# Altium integrated library TI Power Management DC-DC Controller (External Switch).IntLib: 349 symbols (part 12 of 28)
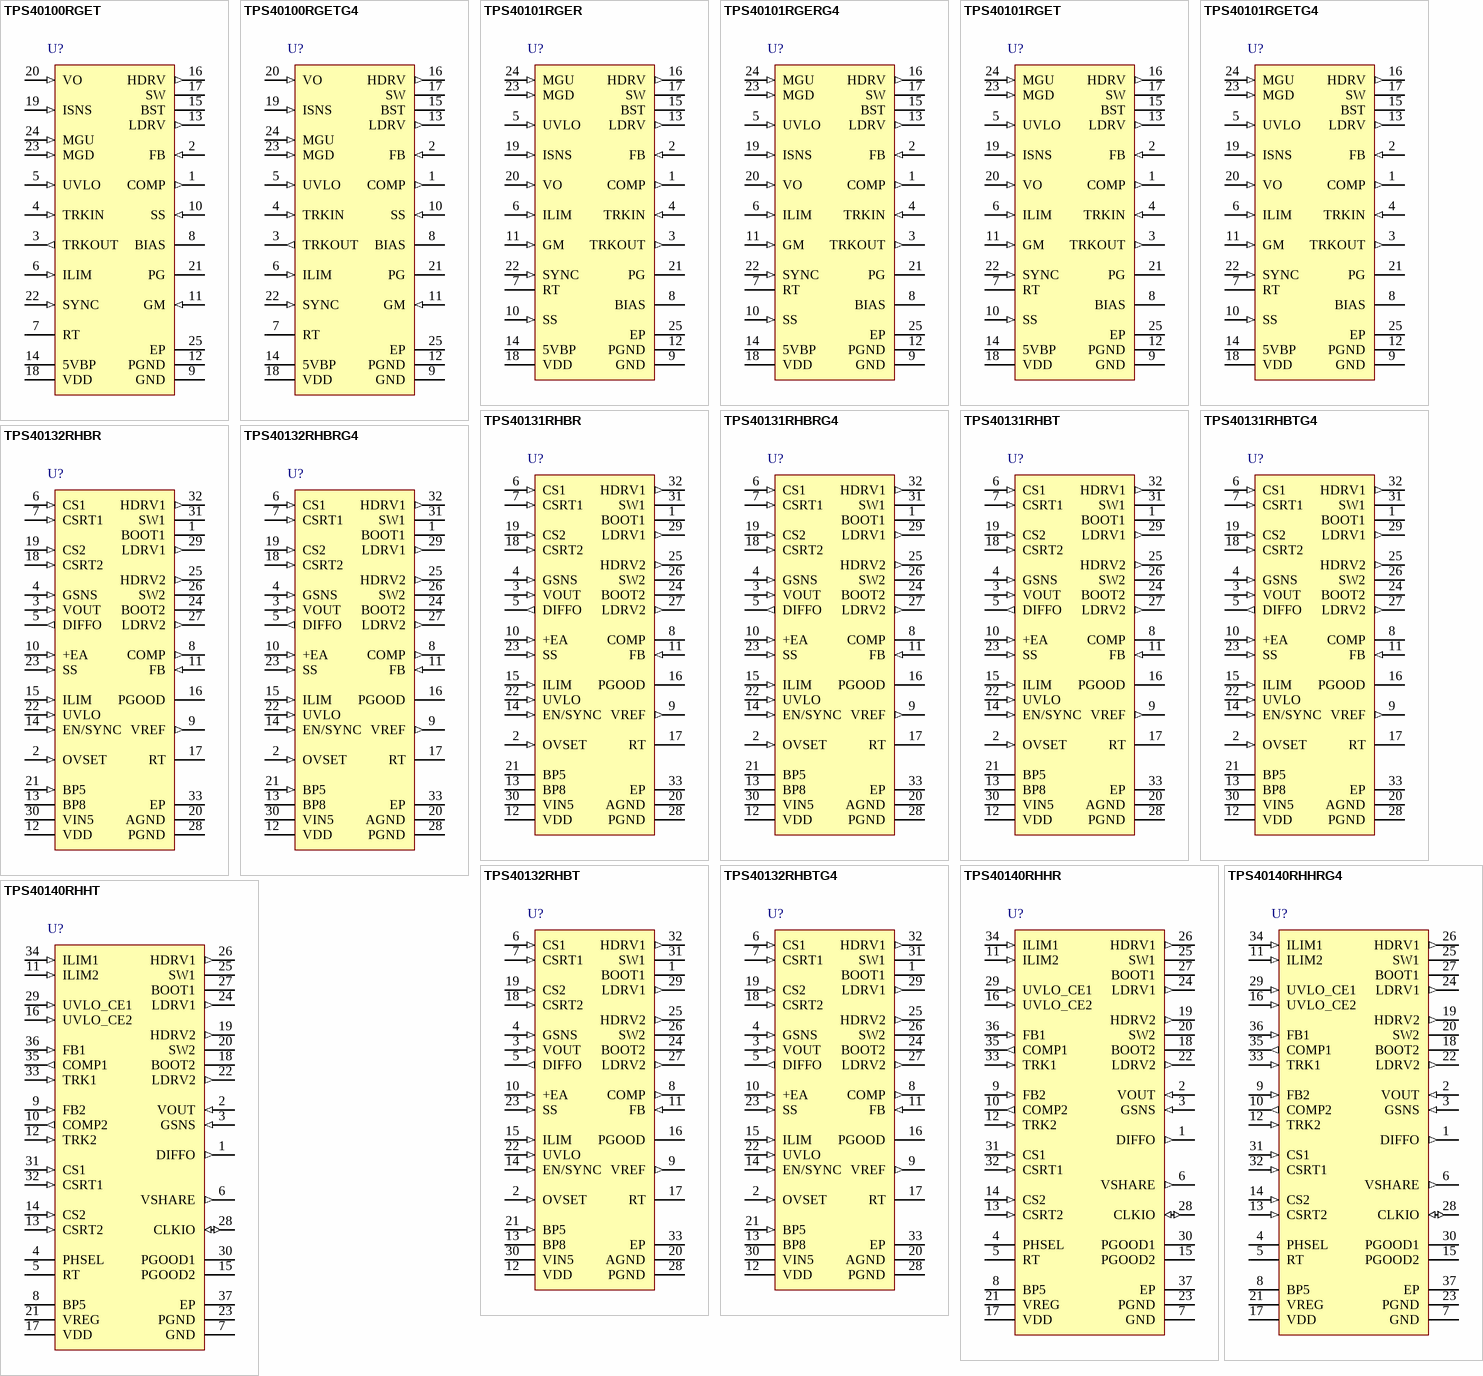
[diagram p25: symbols TPS40100RGET to TPS40140RHHT]

## TPS40140RHHRG4
designator U?
Stackable 2 Channel Multiphase or 2 Channel Independent Output Controller, 87.5 % Duty Cycle, 2 to 40 V, -40 to 85 degC, 36-pin VQFN (RHH), Green (RoHS & no Sb/Br); Manufacturer: Texas Instruments; PartNumber: TPS40140RHHRG4; Duty Cycle(Max)(%): 87.5; Iout(Max)(A): 25; Regulated Outputs(#): 2; SubFamily: Multiple-Output Switching Controller; Switching Frequency(Max)(kHz): 1000; Synchronous Rectification: TRUE; Topology: Buck, Stackable Multiphase"; Vin(Max)(V): 40; Vout(Max)(V): 5.8; Vout(Min)(V): 0.7; DatasheetVersion: SLUS660G; PackageVersion: revE,  Jun-2011; PackageReference: RHH36-4100X4100TP; PackageDescription: 36-Pin Plastic Quad Flatpack No-Lead, 6 x 6 mm Body, 0.5 mm Pitch; Supplier 1: Digi-Key; Supplier Part Number 1: TPS40140RHHRG4-ND; Supplier 2: Newark; Supplier Part Number 2: 14M2492; Supplier 3: Mouser; Supplier Part Number 3: 595-TPS40140RHHRG4; Eco-Plan: Green (RoHS & no Sb/Br); Iout2(A): 25; Vin(Min)(V): 2; Vout2(Max)(V): 5.8; Vout2(Min)(V): 0.7; Mounting Technology: Surface Mount; Code_JEDEC: MO-220; ComponentLink1Description: Datasheet; ComponentLink1URL: http://www.ti.com/general/docs/lit/getliterature.tsp?genericPartNumber=TPS40140&fileType=pdf; ComponentLink2Description: Package Specification; ComponentLink2URL: http://www.ti.com/litv/pdf/mpqf144d
footprint RHH36-4100X4100TP (QFN, 36-Leads, Body 6x6mm, Pitch 0.5mm, Thermal Pad 4.15x4.15mm, TI Recommended)
pins: 1 DIFFO (out) "Output of the differential amplifier. The output voltage of the differential amplifier is limited to 5.8 V. For remote sensing, the voltage at this pin represents the true output voltage without I x R drops that result from (See Datasheet)", 2 VOUT (in) "Non-inverting input of the differential amplifier. This pin should be connected to the output of the converter close to the load point. If the differential amplifier is not used, leave this pin open.", 3 GSNS (in) "Inverting input of the differential amplifier. This pin should be connected to ground at the load. If the differential amplifier is not used, tie this pin to GND or leave open.", 4 PHSEL "A 20uA current flows from this pin. In a single controller design, this pin should be grounded. In a multi controller configuration, a 39- k ohm resistor string sets the voltage on this pin determines the proper phasing for (See Datasheet)", 5 RT "Connecting a resistor from this pin to ground sets the oscillator frequency.", 6 VSHARE (out) "The 1.8 V reference output.", 7 GND (power) "Low noise ground connection to the device.", 8 BP5 (power) "Filtered input from the VREG pin. A 10-ohm resistor should be connected between VREG and BP5 and a 1.0-uF ceramic capacitor should be connected from BP5 to ground.", 9 FB2 (in) "Inverting input of the error amplifier for CH2. In closed loop operation, the voltage at this pin is nominally 700 mV. This pin is also monitored for PGOOD2 and undervoltage on CH2.", 10 COMP2 (out) "Output of the error amplifier, CH2. The voltage at this pin determines the duty cycle for the PWM2.", 11 ILIM2 (in) "Used to set the cycle-by-cycle current limit threshold for CH2. If the ILIM2 threshold is reached, the PWM pulse is terminated and the converter delivers limited current to the output.", 12 TRK2 (in) "This is an input to the non-inverting input of the error amplifier CH2. This pin is normally connected to the soft-start capacitor or to another voltage that is tracked.", 13 CSRT2 (in) "Return point of CH1 current sense voltage. The trace for this signal must be connected directly at the current sense element.", 14 CS2 (in) "These pins are used to sense the CH2 phase current. Inductor current can be sensed with an external current sense resistor or by using an external R-C circuit and the inductor’s DC resistance. The traces for these signals (See Datasheet)", 15 PGOOD2 (oc) "Power good indicators for CH2 output voltage. This open-drain output connects to a voltage via an external resistor", 16 UVLO_CE2 (in) "A voltage divider from VIN to this pin determines the input voltage that CH2 starts. When the voltage is between 0.5 V and 1.5 V the VREG regulator is enabled . When the voltage is 2.1 V or above CH2 soft start is allowed to (See Datasheet)", 17 VDD (power) "Power input for the controller 5V regulator and differential amplifier. A 1.0-uF ceramic capacitor should be connected from this pin to ground.", 18 BOOT2 (power) "BOOT2 provides a bootstrapped supply for the high side FET driver for PWM2, enabling the gate of the high side FET to be driven above the input supply rail. Connect a capacitor from BOOT2 to SW2 pin and a Schottky diode from (See Datasheet)", 19 HDRV2 (out) "Gate drive output for the high side N-channel MOSFET switch for CH2. Output is referenced to SW2 and is bootstrapped for enhancement of the high side switch.", 20 SW2 (power) "Connect to the switched node on converter CH2. It is the return for the CH 2 upper gate driver. There should be a high current return path from the source of the upper MOSFET to this pin. This pin is also used by the (See Datasheet)", 21 VREG (power) "The output of the internal 5-V regulator. A 4.7-uF ceramic capacitor should be connected from this pin to PGND.", 22 LDRV2 (out) "Gate drive output for the low side synchronous rectifier (SR) N-channel MOSFET for CH2.", 23 PGND (power) "Power ground reference for the controller lower gate drivers. There should be a high current return path from the sources of the lower MOSFETs to this pin.", 24 LDRV1 (out) "Gate drive output for the low side synchronous rectifier (SR) N-channel MOSFET for CH1.", 25 SW1 (power) "Connect to the switched node on converter CH1. It is the return for the CH 1 upper gate driver. There should be a high current return path from the source of the upper MOSFET to this pin. This pin is also used by the (See Datasheet)", 26 HDRV1 (out) "Gate drive output for the high side N-channel MOSFET switch for CH1. Output is referenced to SW1 and is bootstrapped for enhancement of the high side switch.", 27 BOOT1 (power) "BOOT1 provides a bootstrapped supply for the high side FET driver for PWM1, enabling the gate of the high side FET to be driven above the input supply rail. Connect a capacitor from BOOT1 to SW1 pin and a Schottky diode from (See Datasheet)", 28 CLKIO (io) "Digital clock signal for synchronizing slave controllers to the master CLKIO frequency and is either 6 or 8 times the PWM switching frequency.", 29 UVLO_CE1 (in) "A voltage divider from VIN to this pin determines the input voltage that CH1 starts. When the voltage is between 0.5 V and 1.5 V the VREG regulator is enabled . When the voltage is 2.1 V or above CH1 soft start is allowed to (See Datasheet)", 30 PGOOD1 (oc) "Power good indicators for CH1 output voltage. This open-drain output connects to a voltage via an external resistor", 31 CS1 (in) "These pins are used to sense the CH1 phase current. Inductor current can be sensed with an external current sense resistor or by using an external R-C circuit and the inductor’s DC resistance. The traces for these signals (See Datasheet)", 32 CSRT1 (in) "Return point of CH1 current sense voltage. The trace for this signal must be connected directly at the current sense element.", 33 TRK1 (in) "This is an input to the non-inverting input of the error amplifier CH1. This pin is normally connected to the soft-start capacitor or to another voltage that is tracked.", 34 ILIM1 (in) "Used to set the cycle-by-cycle current limit threshold for CH1. If the ILIM1 threshold is reached, the PWM pulse is terminated and the converter delivers limited current to the output.", 35 COMP1 (out) "Output of the error amplifier, CH1. The voltage at this pin determines the duty cycle for the PWM1.", 36 FB1 (in) "Inverting input of the error amplifier for CH1. In closed loop operation, the voltage at this pin is nominally 700 mV. This pin is also monitored for PGOOD1 and undervoltage on CH1.", 37 EP (power) "Thermal pad."

## TPS40140RHHT
designator U?
Stackable 2 Channel Multiphase or 2 Channel Independent Output Controller, 87.5 % Duty Cycle, 2 to 40 V, -40 to 85 degC, 36-pin VQFN (RHH), Green (RoHS & no Sb/Br); Manufacturer: Texas Instruments; PartNumber: TPS40140RHHT; Duty Cycle(Max)(%): 87.5; Iout(Max)(A): 25; Regulated Outputs(#): 2; SubFamily: Multiple-Output Switching Controller; Switching Frequency(Max)(kHz): 1000; Synchronous Rectification: TRUE; Topology: Buck, Stackable Multiphase"; Vin(Max)(V): 40; Vout(Max)(V): 5.8; Vout(Min)(V): 0.7; DatasheetVersion: SLUS660G; PackageVersion: revE,  Jun-2011; PackageReference: RHH36-4100X4100TP; PackageDescription: 36-Pin Plastic Quad Flatpack No-Lead, 6 x 6 mm Body, 0.5 mm Pitch; Supplier 1: Digi-Key; Supplier Part Number 1: 296-26964-2-ND; Supplier 2: Digi-Key; Supplier Part Number 2: 296-26964-1-ND; Supplier 3: Digi-Key; Supplier Part Number 3: 296-26964-6-ND; Supplier 4: Farnell; Supplier Part Number 4: 1329594; Supplier 5: Newark; Supplier Part Number 5: 10M0624; Supplier 6: Mouser; Supplier Part Number 6: 595-TPS40140RHHT; Eco-Plan: Green (RoHS & no Sb/Br); Iout2(A): 25; Vin(Min)(V): 2; Vout2(Max)(V): 5.8; Vout2(Min)(V): 0.7; Mounting Technology: Surface Mount; Code_JEDEC: MO-220; ComponentLink1Description: Datasheet; ComponentLink1URL: http://www.ti.com/general/docs/lit/getliterature.tsp?genericPartNumber=TPS40140&fileType=pdf; ComponentLink2Description: Package Specification; ComponentLink2URL: http://www.ti.com/litv/pdf/mpqf144d
footprint RHH36-4100X4100TP (QFN, 36-Leads, Body 6x6mm, Pitch 0.5mm, Thermal Pad 4.15x4.15mm, TI Recommended)
pins: 1 DIFFO (out) "Output of the differential amplifier. The output voltage of the differential amplifier is limited to 5.8 V. For remote sensing, the voltage at this pin represents the true output voltage without I x R drops that result from (See Datasheet)", 2 VOUT (in) "Non-inverting input of the differential amplifier. This pin should be connected to the output of the converter close to the load point. If the differential amplifier is not used, leave this pin open.", 3 GSNS (in) "Inverting input of the differential amplifier. This pin should be connected to ground at the load. If the differential amplifier is not used, tie this pin to GND or leave open.", 4 PHSEL "A 20uA current flows from this pin. In a single controller design, this pin should be grounded. In a multi controller configuration, a 39- k ohm resistor string sets the voltage on this pin determines the proper phasing for (See Datasheet)", 5 RT "Connecting a resistor from this pin to ground sets the oscillator frequency.", 6 VSHARE (out) "The 1.8 V reference output.", 7 GND (power) "Low noise ground connection to the device.", 8 BP5 (power) "Filtered input from the VREG pin. A 10-ohm resistor should be connected between VREG and BP5 and a 1.0-uF ceramic capacitor should be connected from BP5 to ground.", 9 FB2 (in) "Inverting input of the error amplifier for CH2. In closed loop operation, the voltage at this pin is nominally 700 mV. This pin is also monitored for PGOOD2 and undervoltage on CH2.", 10 COMP2 (out) "Output of the error amplifier, CH2. The voltage at this pin determines the duty cycle for the PWM2.", 11 ILIM2 (in) "Used to set the cycle-by-cycle current limit threshold for CH2. If the ILIM2 threshold is reached, the PWM pulse is terminated and the converter delivers limited current to the output.", 12 TRK2 (in) "This is an input to the non-inverting input of the error amplifier CH2. This pin is normally connected to the soft-start capacitor or to another voltage that is tracked.", 13 CSRT2 (in) "Return point of CH1 current sense voltage. The trace for this signal must be connected directly at the current sense element.", 14 CS2 (in) "These pins are used to sense the CH2 phase current. Inductor current can be sensed with an external current sense resistor or by using an external R-C circuit and the inductor’s DC resistance. The traces for these signals (See Datasheet)", 15 PGOOD2 (oc) "Power good indicators for CH2 output voltage. This open-drain output connects to a voltage via an external resistor", 16 UVLO_CE2 (in) "A voltage divider from VIN to this pin determines the input voltage that CH2 starts. When the voltage is between 0.5 V and 1.5 V the VREG regulator is enabled . When the voltage is 2.1 V or above CH2 soft start is allowed to (See Datasheet)", 17 VDD (power) "Power input for the controller 5V regulator and differential amplifier. A 1.0-uF ceramic capacitor should be connected from this pin to ground.", 18 BOOT2 (power) "BOOT2 provides a bootstrapped supply for the high side FET driver for PWM2, enabling the gate of the high side FET to be driven above the input supply rail. Connect a capacitor from BOOT2 to SW2 pin and a Schottky diode from (See Datasheet)", 19 HDRV2 (out) "Gate drive output for the high side N-channel MOSFET switch for CH2. Output is referenced to SW2 and is bootstrapped for enhancement of the high side switch.", 20 SW2 (power) "Connect to the switched node on converter CH2. It is the return for the CH 2 upper gate driver. There should be a high current return path from the source of the upper MOSFET to this pin. This pin is also used by the (See Datasheet)", 21 VREG (power) "The output of the internal 5-V regulator. A 4.7-uF ceramic capacitor should be connected from this pin to PGND.", 22 LDRV2 (out) "Gate drive output for the low side synchronous rectifier (SR) N-channel MOSFET for CH2.", 23 PGND (power) "Power ground reference for the controller lower gate drivers. There should be a high current return path from the sources of the lower MOSFETs to this pin.", 24 LDRV1 (out) "Gate drive output for the low side synchronous rectifier (SR) N-channel MOSFET for CH1.", 25 SW1 (power) "Connect to the switched node on converter CH1. It is the return for the CH 1 upper gate driver. There should be a high current return path from the source of the upper MOSFET to this pin. This pin is also used by the (See Datasheet)", 26 HDRV1 (out) "Gate drive output for the high side N-channel MOSFET switch for CH1. Output is referenced to SW1 and is bootstrapped for enhancement of the high side switch.", 27 BOOT1 (power) "BOOT1 provides a bootstrapped supply for the high side FET driver for PWM1, enabling the gate of the high side FET to be driven above the input supply rail. Connect a capacitor from BOOT1 to SW1 pin and a Schottky diode from (See Datasheet)", 28 CLKIO (io) "Digital clock signal for synchronizing slave controllers to the master CLKIO frequency and is either 6 or 8 times the PWM switching frequency.", 29 UVLO_CE1 (in) "A voltage divider from VIN to this pin determines the input voltage that CH1 starts. When the voltage is between 0.5 V and 1.5 V the VREG regulator is enabled . When the voltage is 2.1 V or above CH1 soft start is allowed to (See Datasheet)", 30 PGOOD1 (oc) "Power good indicators for CH1 output voltage. This open-drain output connects to a voltage via an external resistor", 31 CS1 (in) "These pins are used to sense the CH1 phase current. Inductor current can be sensed with an external current sense resistor or by using an external R-C circuit and the inductor’s DC resistance. The traces for these signals (See Datasheet)", 32 CSRT1 (in) "Return point of CH1 current sense voltage. The trace for this signal must be connected directly at the current sense element.", 33 TRK1 (in) "This is an input to the non-inverting input of the error amplifier CH1. This pin is normally connected to the soft-start capacitor or to another voltage that is tracked.", 34 ILIM1 (in) "Used to set the cycle-by-cycle current limit threshold for CH1. If the ILIM1 threshold is reached, the PWM pulse is terminated and the converter delivers limited current to the output.", 35 COMP1 (out) "Output of the error amplifier, CH1. The voltage at this pin determines the duty cycle for the PWM1.", 36 FB1 (in) "Inverting input of the error amplifier for CH1. In closed loop operation, the voltage at this pin is nominally 700 mV. This pin is also monitored for PGOOD1 and undervoltage on CH1.", 37 EP (power) "Thermal pad."

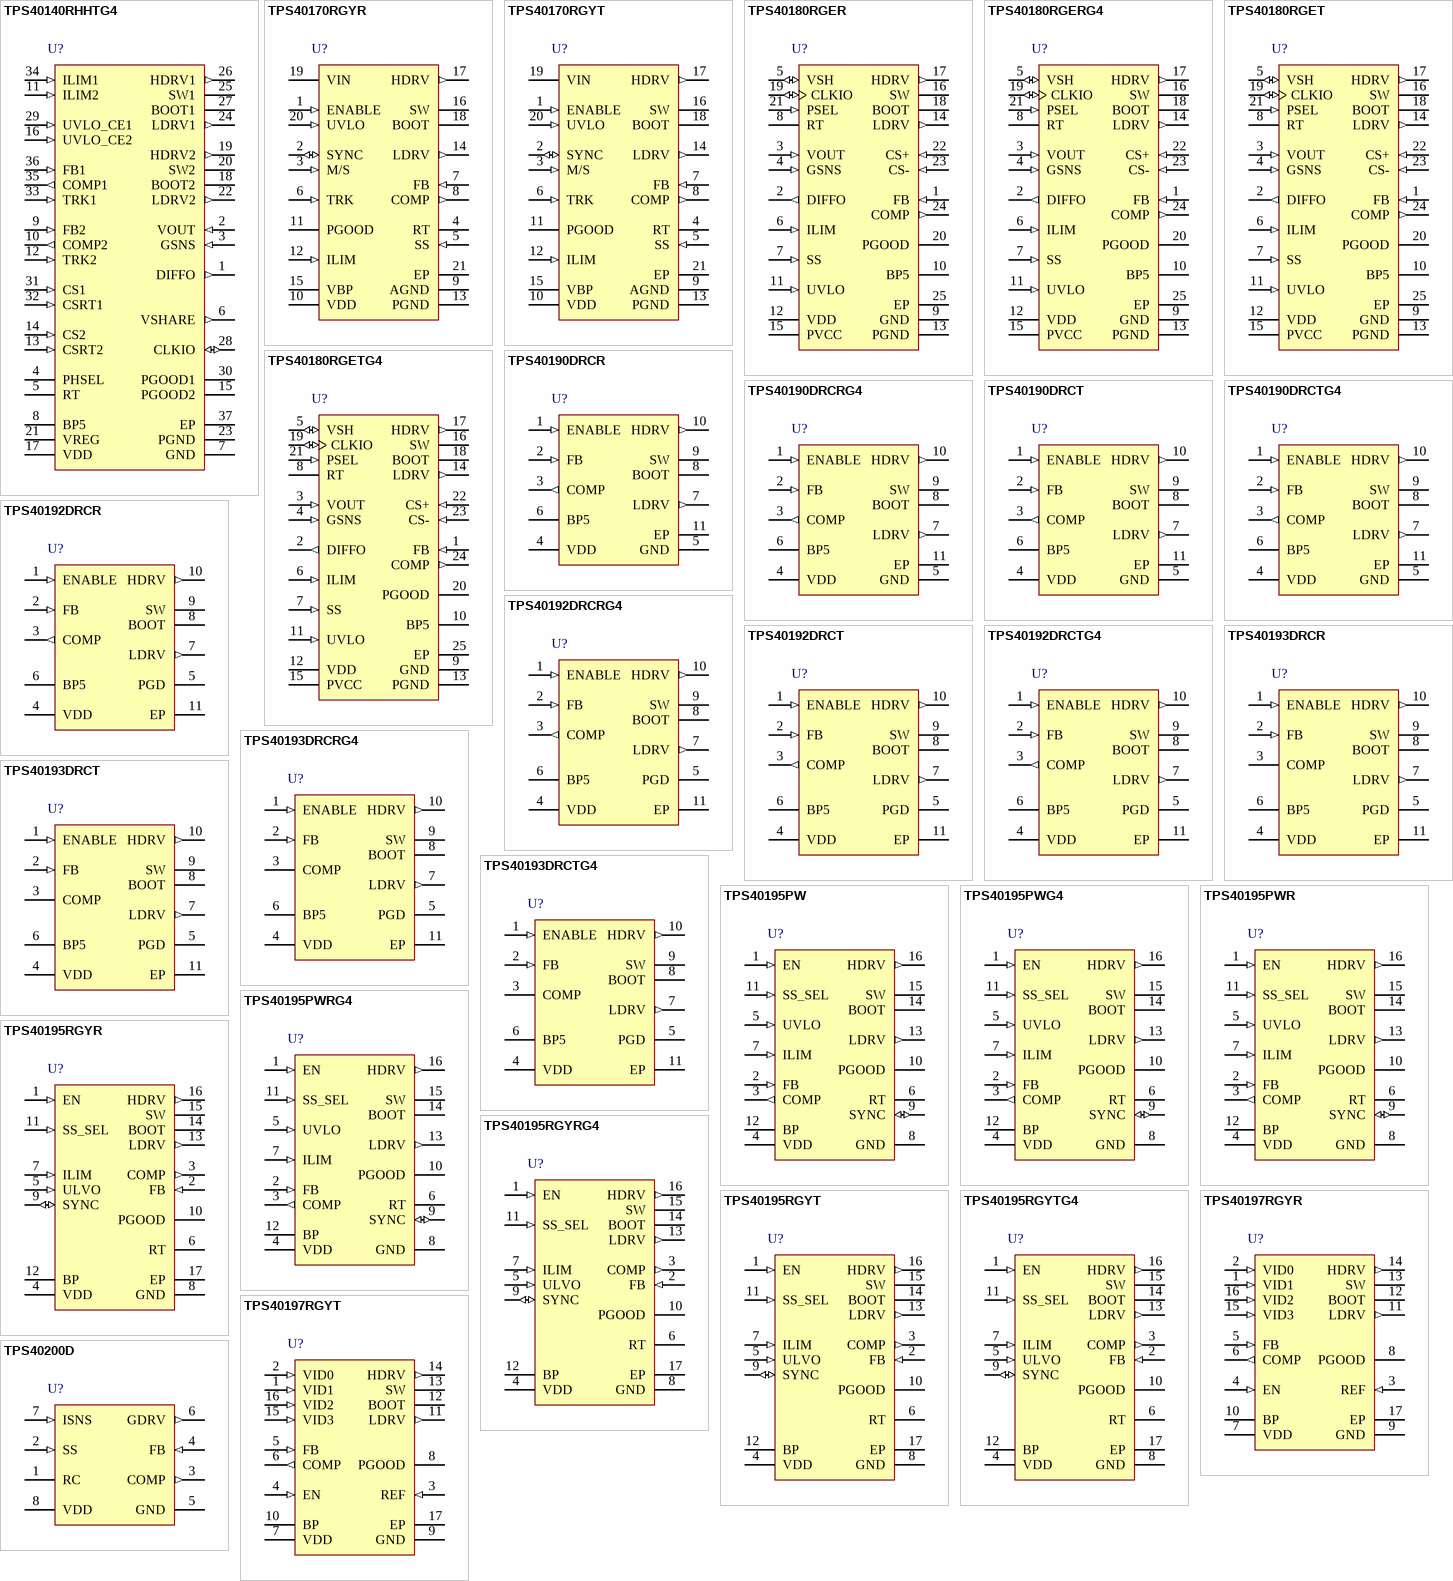
[diagram p7: symbols TPS40140RHHTG4 to TPS40200D]

## TPS40140RHHTG4
designator U?
Stackable 2 Channel Multiphase or 2 Channel Independent Output Controller, 87.5 % Duty Cycle, 2 to 40 V, -40 to 85 degC, 36-pin VQFN (RHH), Green (RoHS & no Sb/Br); Manufacturer: Texas Instruments; PartNumber: TPS40140RHHTG4; Duty Cycle(Max)(%): 87.5; Iout(Max)(A): 25; Regulated Outputs(#): 2; SubFamily: Multiple-Output Switching Controller; Switching Frequency(Max)(kHz): 1000; Synchronous Rectification: TRUE; Topology: Buck, Stackable Multiphase"; Vin(Max)(V): 40; Vout(Max)(V): 5.8; Vout(Min)(V): 0.7; DatasheetVersion: SLUS660G; PackageVersion: revE,  Jun-2011; PackageReference: RHH36-4100X4100TP; PackageDescription: 36-Pin Plastic Quad Flatpack No-Lead, 6 x 6 mm Body, 0.5 mm Pitch; Supplier 1: Digi-Key; Supplier Part Number 1: TPS40140RHHTG4-ND; Supplier 2: Newark; Supplier Part Number 2: 14M2493; Supplier 3: Mouser; Supplier Part Number 3: 595-TPS40140RHHTG4; Eco-Plan: Green (RoHS & no Sb/Br); Iout2(A): 25; Vin(Min)(V): 2; Vout2(Max)(V): 5.8; Vout2(Min)(V): 0.7; Mounting Technology: Surface Mount; Code_JEDEC: MO-220; ComponentLink1Description: Datasheet; ComponentLink1URL: http://www.ti.com/general/docs/lit/getliterature.tsp?genericPartNumber=TPS40140&fileType=pdf; ComponentLink2Description: Package Specification; ComponentLink2URL: http://www.ti.com/litv/pdf/mpqf144d
footprint RHH36-4100X4100TP (QFN, 36-Leads, Body 6x6mm, Pitch 0.5mm, Thermal Pad 4.15x4.15mm, TI Recommended)
pins: 1 DIFFO (out) "Output of the differential amplifier. The output voltage of the differential amplifier is limited to 5.8 V. For remote sensing, the voltage at this pin represents the true output voltage without I x R drops that result from (See Datasheet)", 2 VOUT (in) "Non-inverting input of the differential amplifier. This pin should be connected to the output of the converter close to the load point. If the differential amplifier is not used, leave this pin open.", 3 GSNS (in) "Inverting input of the differential amplifier. This pin should be connected to ground at the load. If the differential amplifier is not used, tie this pin to GND or leave open.", 4 PHSEL "A 20uA current flows from this pin. In a single controller design, this pin should be grounded. In a multi controller configuration, a 39- k ohm resistor string sets the voltage on this pin determines the proper phasing for (See Datasheet)", 5 RT "Connecting a resistor from this pin to ground sets the oscillator frequency.", 6 VSHARE (out) "The 1.8 V reference output.", 7 GND (power) "Low noise ground connection to the device.", 8 BP5 (power) "Filtered input from the VREG pin. A 10-ohm resistor should be connected between VREG and BP5 and a 1.0-uF ceramic capacitor should be connected from BP5 to ground.", 9 FB2 (in) "Inverting input of the error amplifier for CH2. In closed loop operation, the voltage at this pin is nominally 700 mV. This pin is also monitored for PGOOD2 and undervoltage on CH2.", 10 COMP2 (out) "Output of the error amplifier, CH2. The voltage at this pin determines the duty cycle for the PWM2.", 11 ILIM2 (in) "Used to set the cycle-by-cycle current limit threshold for CH2. If the ILIM2 threshold is reached, the PWM pulse is terminated and the converter delivers limited current to the output.", 12 TRK2 (in) "This is an input to the non-inverting input of the error amplifier CH2. This pin is normally connected to the soft-start capacitor or to another voltage that is tracked.", 13 CSRT2 (in) "Return point of CH1 current sense voltage. The trace for this signal must be connected directly at the current sense element.", 14 CS2 (in) "These pins are used to sense the CH2 phase current. Inductor current can be sensed with an external current sense resistor or by using an external R-C circuit and the inductor’s DC resistance. The traces for these signals (See Datasheet)", 15 PGOOD2 (oc) "Power good indicators for CH2 output voltage. This open-drain output connects to a voltage via an external resistor", 16 UVLO_CE2 (in) "A voltage divider from VIN to this pin determines the input voltage that CH2 starts. When the voltage is between 0.5 V and 1.5 V the VREG regulator is enabled . When the voltage is 2.1 V or above CH2 soft start is allowed to (See Datasheet)", 17 VDD (power) "Power input for the controller 5V regulator and differential amplifier. A 1.0-uF ceramic capacitor should be connected from this pin to ground.", 18 BOOT2 (power) "BOOT2 provides a bootstrapped supply for the high side FET driver for PWM2, enabling the gate of the high side FET to be driven above the input supply rail. Connect a capacitor from BOOT2 to SW2 pin and a Schottky diode from (See Datasheet)", 19 HDRV2 (out) "Gate drive output for the high side N-channel MOSFET switch for CH2. Output is referenced to SW2 and is bootstrapped for enhancement of the high side switch.", 20 SW2 (power) "Connect to the switched node on converter CH2. It is the return for the CH 2 upper gate driver. There should be a high current return path from the source of the upper MOSFET to this pin. This pin is also used by the (See Datasheet)", 21 VREG (power) "The output of the internal 5-V regulator. A 4.7-uF ceramic capacitor should be connected from this pin to PGND.", 22 LDRV2 (out) "Gate drive output for the low side synchronous rectifier (SR) N-channel MOSFET for CH2.", 23 PGND (power) "Power ground reference for the controller lower gate drivers. There should be a high current return path from the sources of the lower MOSFETs to this pin.", 24 LDRV1 (out) "Gate drive output for the low side synchronous rectifier (SR) N-channel MOSFET for CH1.", 25 SW1 (power) "Connect to the switched node on converter CH1. It is the return for the CH 1 upper gate driver. There should be a high current return path from the source of the upper MOSFET to this pin. This pin is also used by the (See Datasheet)", 26 HDRV1 (out) "Gate drive output for the high side N-channel MOSFET switch for CH1. Output is referenced to SW1 and is bootstrapped for enhancement of the high side switch.", 27 BOOT1 (power) "BOOT1 provides a bootstrapped supply for the high side FET driver for PWM1, enabling the gate of the high side FET to be driven above the input supply rail. Connect a capacitor from BOOT1 to SW1 pin and a Schottky diode from (See Datasheet)", 28 CLKIO (io) "Digital clock signal for synchronizing slave controllers to the master CLKIO frequency and is either 6 or 8 times the PWM switching frequency.", 29 UVLO_CE1 (in) "A voltage divider from VIN to this pin determines the input voltage that CH1 starts. When the voltage is between 0.5 V and 1.5 V the VREG regulator is enabled . When the voltage is 2.1 V or above CH1 soft start is allowed to (See Datasheet)", 30 PGOOD1 (oc) "Power good indicators for CH1 output voltage. This open-drain output connects to a voltage via an external resistor", 31 CS1 (in) "These pins are used to sense the CH1 phase current. Inductor current can be sensed with an external current sense resistor or by using an external R-C circuit and the inductor’s DC resistance. The traces for these signals (See Datasheet)", 32 CSRT1 (in) "Return point of CH1 current sense voltage. The trace for this signal must be connected directly at the current sense element.", 33 TRK1 (in) "This is an input to the non-inverting input of the error amplifier CH1. This pin is normally connected to the soft-start capacitor or to another voltage that is tracked.", 34 ILIM1 (in) "Used to set the cycle-by-cycle current limit threshold for CH1. If the ILIM1 threshold is reached, the PWM pulse is terminated and the converter delivers limited current to the output.", 35 COMP1 (out) "Output of the error amplifier, CH1. The voltage at this pin determines the duty cycle for the PWM1.", 36 FB1 (in) "Inverting input of the error amplifier for CH1. In closed loop operation, the voltage at this pin is nominally 700 mV. This pin is also monitored for PGOOD1 and undervoltage on CH1.", 37 EP (power) "Thermal pad."

## TPS40170RGYR
designator U?
4.5 to 60 V Wide-Input Synchronous PWM Buck Controller, 95 % Duty Cycle, -40 to 125 degC, 20-pin VQFN (RGY), Green (RoHS & no Sb/Br); Manufacturer: Texas Instruments; PartNumber: TPS40170RGYR; Duty Cycle(Max)(%): 95; Iout(Max)(A): 20; Regulated Outputs(#): 1; SubFamily: Step-Down Controller; Switching Frequency(Max)(kHz): 600; Synchronous Rectification: TRUE; Vin(Max)(V): 60; Vin(Min)(V): 4.5; Vout(Max)(V): 57; Vout(Min)(V): 0.6; DatasheetVersion: SLUS970; PackageVersion: revI, Jun-2011; PackageReference: RGY20-3050X2050TP; PackageDescription: 20-Leads Plastic Quad Flatpack No-Lead, 3.5 x 4.5 x 0.9 mm Body, 0.5 mm Pitch; Supplier 1: Digi-Key; Supplier Part Number 1: TPS40170RGYR-ND; Supplier 2: Newark; Supplier Part Number 2: 40T5429; Supplier 3: Mouser; Supplier Part Number 3: 595-TPS40170RGYR; Eco-Plan: Green (RoHS & no Sb/Br); Topology: Buck; Mounting Technology: Surface Mount; Code_JEDEC: MO-241-BA; ComponentLink1Description: Datasheet; ComponentLink1URL: http://www.ti.com/general/docs/lit/getliterature.tsp?genericPartNumber=TPS40170&fileType=pdf; ComponentLink2Description: Package Specification; ComponentLink2URL: http://www.ti.com/litv/pdf/mpss024a
footprint RGY20-3050X2050TP (QFN, 20-Leads, Body 4.5x3.5mm, Pitch 0.5mm, Thermal Pad 3.05x2.05mm, TI Recommended)
pins: 1 ENABLE (in) "This pin must be high for the device to be enabled. If this pin is pulled low, the device is put in a low-power consumption shutdown mode.", 2 SYNC (io) "Synchronization. This is a bi-directional pin used for frequency synchronization. In the master mode, it is the SYNC output pin. In the slave mode, it is a SYNC input pin. If unused, this pin can be left open.", 3 M/S (in) "Master or slave mode selector pin for frequency synchronization. This pin must be tied to VIN for master mode. In the slave mode this pin must be tied to AGND or left floating. If the pin is tied to AGND, the device (See Datasheet)", 4 RT "A resistor from this pin to AGND sets the oscillator frequency. Even if operating in slave mode, it is required to have a resistor at this pin to set the free running switching frequency.", 5 SS (in) "Soft-start. A capacitor must be connected at this pin to AGND. The capacitor value sets the soft-start time.", 6 TRK (in) "Tracking. External signal at this pin is used for output voltage tracking. This pin goes directly to the internal error amplifier as a positive reference. The lesser of the voltages between VTRK and the internal 600-mV (See Datasheet)", 7 FB (in) "Negative input to the error amplifier. The output voltage is fed back to this pin through a resistor divider network.", 8 COMP (out) "Output of the internal error amplifier. The feedback loop compensation network is connected from this pin to the FB pin.", 9 AGND (power) "Analog signal ground. This pin must be electrically connected to power ground PGND externally.", 10 VDD (power) "3.3-V regulated output. A ceramic by-pass capacitor with a value between 0.1 µF and 1 µF must be connected between this pin and the AGND pin and placed closely to this pin.", 11 PGOOD (oc) "Power good indicator. This pin is an open-drain output pin and a 10-K ohm pull-up resistor is recommended to be connected between this pin and VDD.", 12 ILIM (in) "A resistor from this pin to PGND sets the overcurrent limit. This pin provides source current used for overcurrent protection threshold setting.", 13 PGND (power) "Power ground. This pin must externally connect to the AGND at a single point.", 14 LDRV (out) "Gate driver output for the low-side FET. Also, a resistor from this pin to PGND sets the multiplier factor to determine short-circuit current limit. If no resistor is present the multiplier defaults to 7 times the ILIM pin (See Datasheet)", 15 VBP (power) "8-V regulated output for gate driver. A ceramic capacitor with a value between 1 µF and 10 µF must be connected from this pin to PGND", 16 SW (power) "This pin must connect to the switching node of the synchronous buck converter. The high-side and low-side FET current sensing are also done from this node.", 17 HDRV (out) "Gate driver output for the high-side FET.", 18 BOOT (power) "Boot capacitor node for high-side FET gate driver. The boot capacitor is connected from this pin to SW.", 19 VIN (power) "Input voltage for the controller which is also the input voltage for the DC/DC converter. A 1-µF by-pass capacitor from this pin to AGND must be added and placed closed to VIN.", 20 UVLO (in) "Undervoltage lockout. A resistor divider on this pin from VIN to AGND can be used to set the UVLO threshold.", 21 EP (power) "Thermal pad is used as an active terminal of GND."

## TPS40170RGYT
designator U?
4.5 to 60 V Wide-Input Synchronous PWM Buck Controller, 95 % Duty Cycle, -40 to 125 degC, 20-pin VQFN (RGY), Green (RoHS & no Sb/Br); Manufacturer: Texas Instruments; PartNumber: TPS40170RGYT; Duty Cycle(Max)(%): 95; Iout(Max)(A): 20; Regulated Outputs(#): 1; SubFamily: Step-Down Controller; Switching Frequency(Max)(kHz): 600; Synchronous Rectification: TRUE; Vin(Max)(V): 60; Vin(Min)(V): 4.5; Vout(Max)(V): 57; Vout(Min)(V): 0.6; DatasheetVersion: SLUS970; PackageVersion: revI, Jun-2011; PackageReference: RGY20-3050X2050TP; PackageDescription: 20-Leads Plastic Quad Flatpack No-Lead, 3.5 x 4.5 x 0.9 mm Body, 0.5 mm Pitch; Supplier 1: Digi-Key; Supplier Part Number 1: 296-28364-2-ND; Supplier 2: Digi-Key; Supplier Part Number 2: 296-28364-1-ND; Supplier 3: Digi-Key; Supplier Part Number 3: 296-28364-6-ND; Supplier 4: Farnell; Supplier Part Number 4: 1898981; Supplier 5: Newark; Supplier Part Number 5: 40T4046; Supplier 6: Mouser; Supplier Part Number 6: 595-TPS40170RGYT; Eco-Plan: Green (RoHS & no Sb/Br); Topology: Buck; Mounting Technology: Surface Mount; Code_JEDEC: MO-241-BA; ComponentLink1Description: Datasheet; ComponentLink1URL: http://www.ti.com/general/docs/lit/getliterature.tsp?genericPartNumber=TPS40170&fileType=pdf; ComponentLink2Description: Package Specification; ComponentLink2URL: http://www.ti.com/litv/pdf/mpss024a
footprint RGY20-3050X2050TP (QFN, 20-Leads, Body 4.5x3.5mm, Pitch 0.5mm, Thermal Pad 3.05x2.05mm, TI Recommended)
pins: 1 ENABLE (in) "This pin must be high for the device to be enabled. If this pin is pulled low, the device is put in a low-power consumption shutdown mode.", 2 SYNC (io) "Synchronization. This is a bi-directional pin used for frequency synchronization. In the master mode, it is the SYNC output pin. In the slave mode, it is a SYNC input pin. If unused, this pin can be left open.", 3 M/S (in) "Master or slave mode selector pin for frequency synchronization. This pin must be tied to VIN for master mode. In the slave mode this pin must be tied to AGND or left floating. If the pin is tied to AGND, the device (See Datasheet)", 4 RT "A resistor from this pin to AGND sets the oscillator frequency. Even if operating in slave mode, it is required to have a resistor at this pin to set the free running switching frequency.", 5 SS (in) "Soft-start. A capacitor must be connected at this pin to AGND. The capacitor value sets the soft-start time.", 6 TRK (in) "Tracking. External signal at this pin is used for output voltage tracking. This pin goes directly to the internal error amplifier as a positive reference. The lesser of the voltages between VTRK and the internal 600-mV (See Datasheet)", 7 FB (in) "Negative input to the error amplifier. The output voltage is fed back to this pin through a resistor divider network.", 8 COMP (out) "Output of the internal error amplifier. The feedback loop compensation network is connected from this pin to the FB pin.", 9 AGND (power) "Analog signal ground. This pin must be electrically connected to power ground PGND externally.", 10 VDD (power) "3.3-V regulated output. A ceramic by-pass capacitor with a value between 0.1 µF and 1 µF must be connected between this pin and the AGND pin and placed closely to this pin.", 11 PGOOD (oc) "Power good indicator. This pin is an open-drain output pin and a 10-K ohm pull-up resistor is recommended to be connected between this pin and VDD.", 12 ILIM (in) "A resistor from this pin to PGND sets the overcurrent limit. This pin provides source current used for overcurrent protection threshold setting.", 13 PGND (power) "Power ground. This pin must externally connect to the AGND at a single point.", 14 LDRV (out) "Gate driver output for the low-side FET. Also, a resistor from this pin to PGND sets the multiplier factor to determine short-circuit current limit. If no resistor is present the multiplier defaults to 7 times the ILIM pin (See Datasheet)", 15 VBP (power) "8-V regulated output for gate driver. A ceramic capacitor with a value between 1 µF and 10 µF must be connected from this pin to PGND", 16 SW (power) "This pin must connect to the switching node of the synchronous buck converter. The high-side and low-side FET current sensing are also done from this node.", 17 HDRV (out) "Gate driver output for the high-side FET.", 18 BOOT (power) "Boot capacitor node for high-side FET gate driver. The boot capacitor is connected from this pin to SW.", 19 VIN (power) "Input voltage for the controller which is also the input voltage for the DC/DC converter. A 1-µF by-pass capacitor from this pin to AGND must be added and placed closed to VIN.", 20 UVLO (in) "Undervoltage lockout. A resistor divider on this pin from VIN to AGND can be used to set the UVLO threshold.", 21 EP (power) "Thermal pad is used as an active terminal of GND."

## TPS40180RGER
designator U?
Single Phase Stackable Controller, 87.5 % Duty Cycle, 2 to 40 V, -40 to 85 degC, 24-pin VQFN (RGE), Green (RoHS & no Sb/Br); Manufacturer: Texas Instruments; PartNumber: TPS40180RGER; Duty Cycle(Max)(%): 87.5; Iout(Max)(A): 25; Regulated Outputs(#): 1; SubFamily: Step-Down Controller; Switching Frequency(Max)(kHz): 1000; Synchronous Rectification: TRUE; Topology: Stackable Multiphase; Vin(Max)(V): 40; Vin(Min)(V): 2; Vout(Max)(V): 5.8; Vout(Min)(V): 0.7; DatasheetVersion: SLVS753B; PackageVersion: revG, Jul-2011; PackageReference: RGE24-2450X2450TP; PackageDescription: 24-Pin Plastic Quad Flatpack No-Lead, 4 x 4 mm Body, 0.5 mm Pitch; Supplier 1: Digi-Key; Supplier Part Number 1: 296-21973-2-ND; Supplier 2: Digi-Key; Supplier Part Number 2: 296-21973-1-ND; Supplier 3: Digi-Key; Supplier Part Number 3: 296-21973-6-ND; Supplier 4: Newark; Supplier Part Number 4: 46M9310; Supplier 5: Mouser; Supplier Part Number 5: 595-TPS40180RGER; Eco-Plan: Green (RoHS & no Sb/Br); Mounting Technology: Surface Mount; Code_JEDEC: MO-220; ComponentLink1Description: Datasheet; ComponentLink1URL: http://www.ti.com/general/docs/lit/getliterature.tsp?genericPartNumber=TPS40180&fileType=pdf; ComponentLink2Description: Package Specification; ComponentLink2URL: http://www.ti.com/litv/pdf/mpqf124f
footprint RGE24-2450X2450TP (QFN, 24-Leads, Body 4x4mm, Pitch 0.5mm, Thermal Pad 2.45x2.45mm, TI Recommended)
pins: 1 FB (in) "Inverting input to the internal error amplifier. Normally this pin is at the reference voltage of 700 mV.", 2 DIFFO (out) "Output of the remote sense amplifier. Amplifier is fixed gain of 1 differential mode and is used for output voltage sensing at the load to eliminate distribution drops.", 3 VOUT (in) "Positive input to the remote sense amplifier. Amplifier is fixed gain of 1 differential mode and is used for output voltage sensing at the load to eliminate distribution drops.", 4 GSNS (in) "Negative input to the remote sense amplifier. Amplifier is fixed gain of 1 differential mode and is used for output voltage sensing at the load to eliminate distribution drops.", 5 VSH (io) "Pin is either an input or an output. If the chip is configured as a voltage loop master the valley voltage is output on this pin and is distributed to the slave devices. If configured as a voltage loop slave, the master VSH (See Datasheet)", 6 ILIM (in) "Programs the overcurrent limit of the device. Connecting a resistor from this pin to VSH and another to VOUT on the voltage loop master sets a voltage above VSH. COMP is not allowed to exceed this voltage. If the load (See Datasheet)", 7 SS (in) "Soft-start input. This pin determines the startup ramp time for the converter as well as overcurrent and other fault recovery timing. The voltage at this pin is applied as a reference to the error amplifier. While this (See Datasheet)", 8 RT "Frequency programming pin. Connecting a resistor from this pin to GND sets the switching frequency of the device. If this pin is connected to VDD or PVCC, the device is a clock slave and gets its time base from CLKIO of the (See Datasheet)", 9 GND (power) "Signal level ground connection for the device. All low level signals at the device should be referenced to this pin. No power level current should be allowed to flow through the GND pin copper areas on the board. Connect to (See Datasheet)", 10 BP5 (power) "Electrically quiet 5-V supply for the internal circuitry inside the device. If VDD is above 5 V, connect a 20-ohm resistor from PVCC to this pin and a 100-nF capacitor from this pin to GND. For VDD at 5 V, this pin can be (See Datasheet)", 11 UVLO (in) "UVLO input for the device. A resistor divider from VDD sets the turn on voltage for the device. Below this voltage, the device is in a low quiescent current state. Pulling this pin to ground shuts down the device, and is (See Datasheet)", 12 VDD (power) "Power input for the LDO on the device.", 13 PGND (power) "Common connection for the power circuits on the device. This pin should be electrically close to the source of the FET connected to LDRV. Connected to GND only at the thermal pad for best results.", 14 LDRV (out) "Gate drive output for the low-side or rectifier FET.", 15 PVCC (power) "Output of the on board LDO. This is the power input for the drivers and bootstrap circuit. The 5.3-V output on this pin is used for external circuitry as long as the total current required to drive the gates of the switching (See Datasheet)", 16 SW (power) "This pin is connected to the source of the high-side or switch FET and is the return path for the floating high-side driver.", 17 HDRV (out) "Gate drive output for the high-side FET. High-side FET turn-on time must not be greater than minimum on-time. See electrical characteristics table for the minimum on time of the pulse width modulator.", 18 BOOT (power) "Bootstrap pin for the high-side driver. A 100-nF capacitor is connected from this pin to SW and provides power to the high-side driver when the high-side FET is turned on.", 19 CLKIO (io) "Clock and phase timing output while the device is configured as a clock master. In clock slave mode, the master CLKIO pin is connected to the slave CLKIO pin to provide time base information to the slave.", 20 PGOOD (oc) "Power good output. This open drain output pulls low when the device is in any state other than in normal regulation. Active soft-start, UVLO, overcurrent, undervoltage, overvoltage or overtemperature warning (115degreesC (See Datasheet)", 21 PSEL (in) "Phase select pin. For a clock master, a resistor from this pin to GND determines the CLKIO output. When configured as a clock slave, a resistor from the pin to GND selects the phase relationship that the slave has with the (See Datasheet)", 22 CS+ (in) "Positive input to the current sense amplifier.", 23 CS- (in) "Negative input to the current sense amplifier", 24 COMP (out) "Output of the error amplifier.", 25 EP (power) "Exposed Thermal Pad."

## TPS40180RGERG4
designator U?
Single Phase Stackable Controller, 87.5 % Duty Cycle, 2 to 40 V, -40 to 85 degC, 24-pin VQFN (RGE), Green (RoHS & no Sb/Br); Manufacturer: Texas Instruments; PartNumber: TPS40180RGERG4; Duty Cycle(Max)(%): 87.5; Iout(Max)(A): 25; Regulated Outputs(#): 1; SubFamily: Step-Down Controller; Switching Frequency(Max)(kHz): 1000; Synchronous Rectification: TRUE; Topology: Stackable Multiphase; Vin(Max)(V): 40; Vin(Min)(V): 2; Vout(Max)(V): 5.8; Vout(Min)(V): 0.7; DatasheetVersion: SLVS753B; PackageVersion: revG, Jul-2011; PackageReference: RGE24-2450X2450TP; PackageDescription: 24-Pin Plastic Quad Flatpack No-Lead, 4 x 4 mm Body, 0.5 mm Pitch; Supplier 1: Digi-Key; Supplier Part Number 1: TPS40180RGERG4-ND; Supplier 2: Newark; Supplier Part Number 2: 46M9311; Supplier 3: Mouser; Supplier Part Number 3: 595-TPS40180RGERG4; Eco-Plan: Green (RoHS & no Sb/Br); Mounting Technology: Surface Mount; Code_JEDEC: MO-220; ComponentLink1Description: Datasheet; ComponentLink1URL: http://www.ti.com/general/docs/lit/getliterature.tsp?genericPartNumber=TPS40180&fileType=pdf; ComponentLink2Description: Package Specification; ComponentLink2URL: http://www.ti.com/litv/pdf/mpqf124f
footprint RGE24-2450X2450TP (QFN, 24-Leads, Body 4x4mm, Pitch 0.5mm, Thermal Pad 2.45x2.45mm, TI Recommended)
pins: 1 FB (in) "Inverting input to the internal error amplifier. Normally this pin is at the reference voltage of 700 mV.", 2 DIFFO (out) "Output of the remote sense amplifier. Amplifier is fixed gain of 1 differential mode and is used for output voltage sensing at the load to eliminate distribution drops.", 3 VOUT (in) "Positive input to the remote sense amplifier. Amplifier is fixed gain of 1 differential mode and is used for output voltage sensing at the load to eliminate distribution drops.", 4 GSNS (in) "Negative input to the remote sense amplifier. Amplifier is fixed gain of 1 differential mode and is used for output voltage sensing at the load to eliminate distribution drops.", 5 VSH (io) "Pin is either an input or an output. If the chip is configured as a voltage loop master the valley voltage is output on this pin and is distributed to the slave devices. If configured as a voltage loop slave, the master VSH (See Datasheet)", 6 ILIM (in) "Programs the overcurrent limit of the device. Connecting a resistor from this pin to VSH and another to VOUT on the voltage loop master sets a voltage above VSH. COMP is not allowed to exceed this voltage. If the load (See Datasheet)", 7 SS (in) "Soft-start input. This pin determines the startup ramp time for the converter as well as overcurrent and other fault recovery timing. The voltage at this pin is applied as a reference to the error amplifier. While this (See Datasheet)", 8 RT "Frequency programming pin. Connecting a resistor from this pin to GND sets the switching frequency of the device. If this pin is connected to VDD or PVCC, the device is a clock slave and gets its time base from CLKIO of the (See Datasheet)", 9 GND (power) "Signal level ground connection for the device. All low level signals at the device should be referenced to this pin. No power level current should be allowed to flow through the GND pin copper areas on the board. Connect to (See Datasheet)", 10 BP5 (power) "Electrically quiet 5-V supply for the internal circuitry inside the device. If VDD is above 5 V, connect a 20-ohm resistor from PVCC to this pin and a 100-nF capacitor from this pin to GND. For VDD at 5 V, this pin can be (See Datasheet)", 11 UVLO (in) "UVLO input for the device. A resistor divider from VDD sets the turn on voltage for the device. Below this voltage, the device is in a low quiescent current state. Pulling this pin to ground shuts down the device, and is (See Datasheet)", 12 VDD (power) "Power input for the LDO on the device.", 13 PGND (power) "Common connection for the power circuits on the device. This pin should be electrically close to the source of the FET connected to LDRV. Connected to GND only at the thermal pad for best results.", 14 LDRV (out) "Gate drive output for the low-side or rectifier FET.", 15 PVCC (power) "Output of the on board LDO. This is the power input for the drivers and bootstrap circuit. The 5.3-V output on this pin is used for external circuitry as long as the total current required to drive the gates of the switching (See Datasheet)", 16 SW (power) "This pin is connected to the source of the high-side or switch FET and is the return path for the floating high-side driver.", 17 HDRV (out) "Gate drive output for the high-side FET. High-side FET turn-on time must not be greater than minimum on-time. See electrical characteristics table for the minimum on time of the pulse width modulator.", 18 BOOT (power) "Bootstrap pin for the high-side driver. A 100-nF capacitor is connected from this pin to SW and provides power to the high-side driver when the high-side FET is turned on.", 19 CLKIO (io) "Clock and phase timing output while the device is configured as a clock master. In clock slave mode, the master CLKIO pin is connected to the slave CLKIO pin to provide time base information to the slave.", 20 PGOOD (oc) "Power good output. This open drain output pulls low when the device is in any state other than in normal regulation. Active soft-start, UVLO, overcurrent, undervoltage, overvoltage or overtemperature warning (115degreesC (See Datasheet)", 21 PSEL (in) "Phase select pin. For a clock master, a resistor from this pin to GND determines the CLKIO output. When configured as a clock slave, a resistor from the pin to GND selects the phase relationship that the slave has with the (See Datasheet)", 22 CS+ (in) "Positive input to the current sense amplifier.", 23 CS- (in) "Negative input to the current sense amplifier", 24 COMP (out) "Output of the error amplifier.", 25 EP (power) "Exposed Thermal Pad."